# Altium footprint library lib_driver.pcblib: 30 footprints (part 5 of 5)
Each footprint in its own frame and in the unit in brackets; x right, y up, seen from the top. Pads: shape width x height; smd on the part's side, far side on the other; paste and mask are expansions set on the pad; w line width, h text height; cw(c..) or ccw(c..) is an arc to the next point about the centre after c.
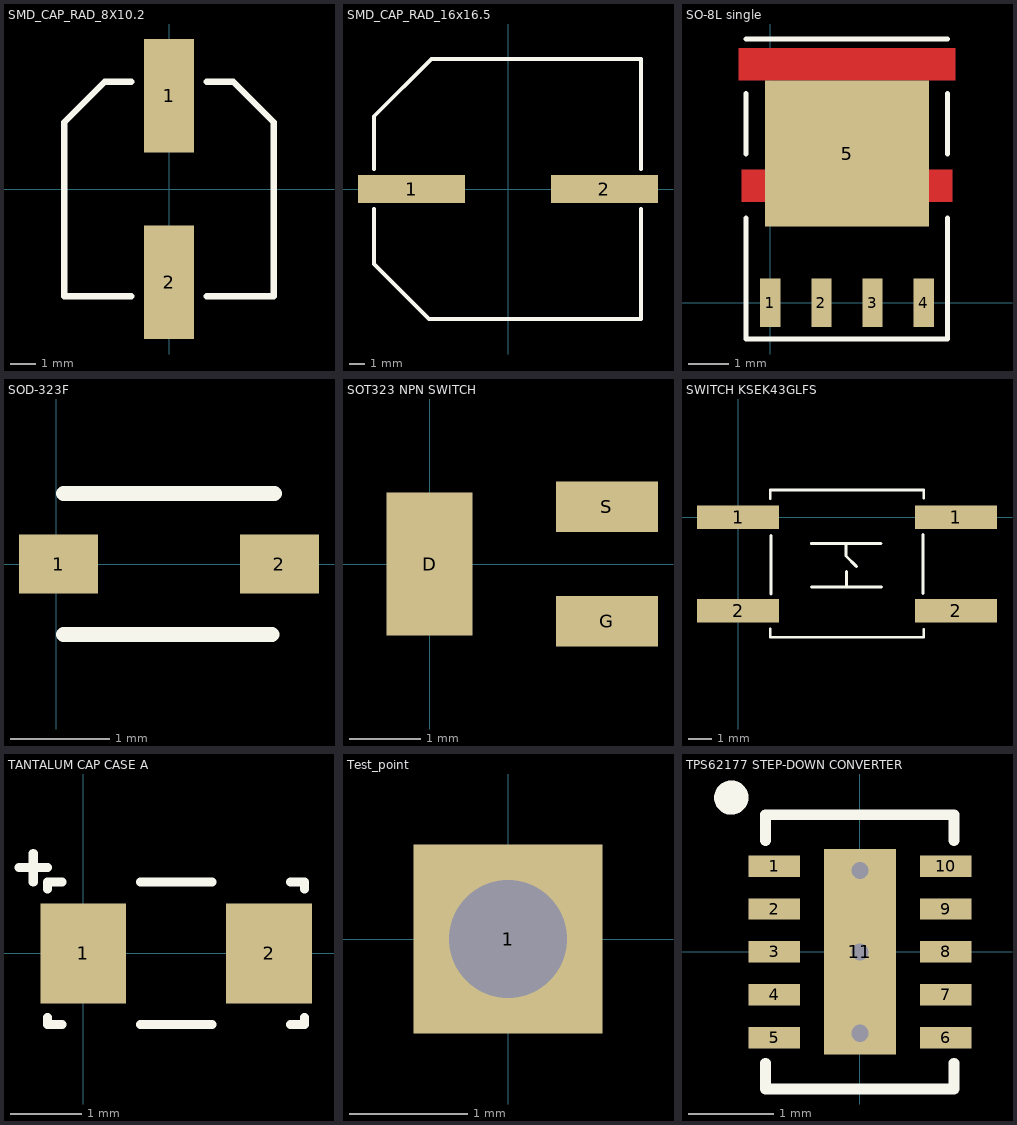
[diagram p4: the footprints below, top view; thin cyan lines are the x and y axes]

## SMD_CAP_RAD_8X10.2 [mm] "SMD radial capacitor F pack"
height 10.2
pads (2):
  rect 2x4.5 smd: 1(0,3.7) 2(0,-3.7)
Top Overlay:
  lines w0.254: -1.5,-4.25 -4.15,-4.25 -4.15,2.65 -2.55,4.25 -1.5,4.25 ; 1.5,-4.25 4.15,-4.25 4.15,2.65 2.55,4.25 1.5,4.25
3D body "User Library-ALU-F.STEP": height 10.2, standoff 0, extent -4.15,-4.95 4.15,4.95

## SMD_CAP_RAD_16x16.5 [mm]
pads (2):
  rect 7x1.8 smd: 1(-6.3,0) 2(6.3,0)
Top Overlay:
  lines w0.254: -8.75,-1.3 -8.75,-4.9 -5.15,-8.5 -4.1,-8.5 8.7,-8.5 8.7,-1.3 ; -8.75,1.3 -8.75,4.75 -5,8.5 8.7,8.5 8.7,1.3
3D body "User Library-capacitor size J16.step": height 16.52, standoff 0.01, extent -8.85,-8.5 8.85,8.5

## SO-8L single [mm] "SiJ 470DP MOSFET"
pads (5):
  rect 0.5x1.2 smd: 1(0,0) 2(1.27,0) 3(2.54,0) 4(3.81,0)
  rect 4.061x3.63 smd: 5(1.905,3.706)
Top Layer:
  rectangle: 3.935,2.501 4.53,3.311
  rectangle: -0.72,2.501 -0.125,3.311
  rectangle: -0.795,5.521 4.605,6.331
Top Overlay:
  lines w0.127: -0.6,2.1 -0.6,0.275 -0.6,-0.9 4.4,-0.9 4.4,2.1 ; -0.6,3.7 -0.6,5.2 ; -0.6,6.55 4.4,6.55 ; 4.4,3.7 4.4,5.2
3D body "User Library-PowerPAK_SO-8L_SINGLE.STEP": height 1.07, standoff 0, extent -0.655,-0.057 4.465,6.093

## SOD-323F [mm] "SOD 323F"
height 0.8
pads (2):
  rect 0.8x0.6 smd: 1(0.025,0) 2(2.261,0)
Top Overlay:
  lines w0.152: 0.076,-0.711 2.184,-0.711 ; 0.076,0.711 2.21,0.711
3D body "SOD323F.step": height 0.75, standoff -0.01, extent -0.257,-0.675 2.543,0.675

## SOT323 NPN SWITCH [mm] "Switching transistor, NPN, SOT323"
height 0.95
pads (3):
  rect 1.2x2 smd: D(0,0)
  rect 1.425x0.7 smd: G(2.475,-0.8) S(2.475,0.8)
3D body "User Library-sc70-3.STEP": height 1, standoff 0, extent 0.05,-1.05 2.35,1.05

## SWITCH KSEK43GLFS [mm] "Push button, tactile switch, KSEK43G LFS, SMD"
height 4.3
pads (4):
  rect 3.5x1 smd: 1(0,0) 1(9.3,0) 2(0,-4) 2(9.3,-4)
Top Overlay:
  lines w0.127: 1.375,-4.775 1.375,-5.125 7.925,-5.125 7.925,-4.8 ; 1.375,0.8 1.375,1.15 7.925,1.15 7.925,0.825 ; 1.4,-3.275 1.4,-0.775 ; 3.125,-1.125 6.1,-1.125 ; 3.138,-2.975 6.113,-2.975 ; 4.613,-1.125 4.613,-1.663 5.05,-2.1 ; 4.625,-2.975 4.625,-2.325 ; 7.9,-3.25 7.9,-0.75
3D body "CU17K11542FP-A.stp": height 4.29, standoff -0.01, extent -0.297,-5.15 9.597,1.15

## TANTALUM CAP CASE A [mm] "TANTALUM CAPACITOR, 10uF, 10V, CASE A"
height 1.8
pads (2):
  rect 1.2x1.4 smd: 1(0,0) 2(2.6,0)
Top Overlay:
  lines w0.127: -0.9,1.2 -0.5,1.2 ; -0.7,1 -0.7,1.4 ; -0.5,-0.9 -0.5,-1 -0.3,-1 ; -0.5,0.9 -0.5,1 -0.3,1 ; 0.8,-1 1.8,-1 ; 0.8,1 1.8,1 ; 2.9,-1 3.1,-1 3.1,-0.9 ; 2.9,1 3.1,1 3.1,0.9
3D body "User Library-CAP_TANT_3216-18_A_case-1.STEP": height 1.7, standoff 0, extent -0.4,-0.9 3,0.9

## Test_point [mm]
pads (1):
  rect 1.6x1.6 hole 1: 1(0,0)
Mid-Layer 9:
  lines w0.254: -1.27,-1.27 1.27,-1.27 1.27,1.27 -1.27,1.27 -1.27,-1.27

## TPS62177 STEP-DOWN CONVERTER [mm] "28V to 3.3V, 0.5A"
height 0.75
pads (11):
  rect 0.6x0.25 smd mask+0.07: 1(-1,1) 2(-1,0.5) 3(-1,0) 4(-1,-0.5) 5(-1,-1) 6(1,-1) 7(1,-0.5) 8(1,0) 9(1,0.5) 10(1,1)
  rect 0.84x2.4 smd mask+0.07: 11(0,0)
via 0,0.95 diameter 0.4 hole 0.2
via 0,0 diameter 0.4 hole 0.2
via 0,-0.95 diameter 0.4 hole 0.2
Top Overlay:
  circle w0.2: c-1.5,1.8 r0.1
  lines w0.127: -1.1,-1.3 -1.1,-1.6 -0.8,-1.6 0.4,-1.6 1.1,-1.6 1.1,-1.3 ; -1.1,1.3 -1.1,1.4 -1.1,1.6 -0.8,1.6 0.4,1.6 1.1,1.6 1.1,1.3
3D body: height 0.75, standoff 0.05, extent -1,-1.5 1,1.5